# EAGLE library part MICROCHIP-USB-MCP2200 (library Pygmy)
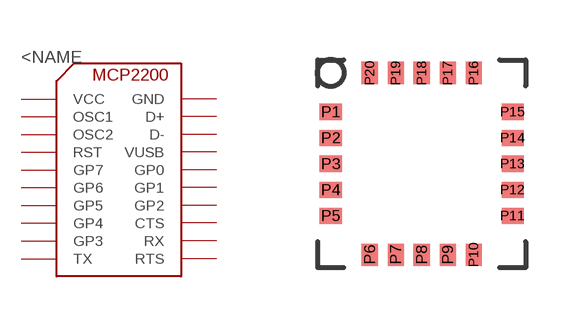
[diagram p10: symbol with the pads of QFN-20-5X5; footprint QFN-20-5X5]

Designator prefix -

## MICROCHIP-USB-MCP2200  [QFN-20-5X5]
P1  RST
P2  GP7
P3  GP6
P4  GP5
P5  GP4
P6  GP3
P7  TX
P8  RTS
P9  RX
P10  CTS
P11  GP2
P12  GP1
P13  GP0
P14  VUSB
P15  D-
P16  D+
P17  GND
P18  VCC
P19  OSC1
P20  OSC2

## Footprint QFN-20-5X5 (pad centres in mm)
smd 0.55 x 0.4: P1 0,-0.975; P2 0,-1.625; P3 0,-2.275; P4 0,-2.925; P5 0,-3.575; P11 4.55,-3.575; P12 4.55,-2.925; P13 4.55,-2.275; P14 4.55,-1.625; P15 4.55,-0.975
smd 0.4 x 0.55: P6 0.975,-4.55; P7 1.625,-4.55; P8 2.275,-4.55; P9 2.925,-4.55; P10 3.575,-4.55; P16 3.575,0; P17 2.925,0; P18 2.275,0; P19 1.625,0; P20 0.975,0